# Altium footprint library PcbLib1.PcbLib: 1 footprints
Each footprint in its own frame and in the unit in brackets; x right, y up, seen from the top. Pads: shape width x height; smd on the part's side, far side on the other; paste and mask are expansions set on the pad; w line width, h text height; cw(c..) or ccw(c..) is an arc to the next point about the centre after c.
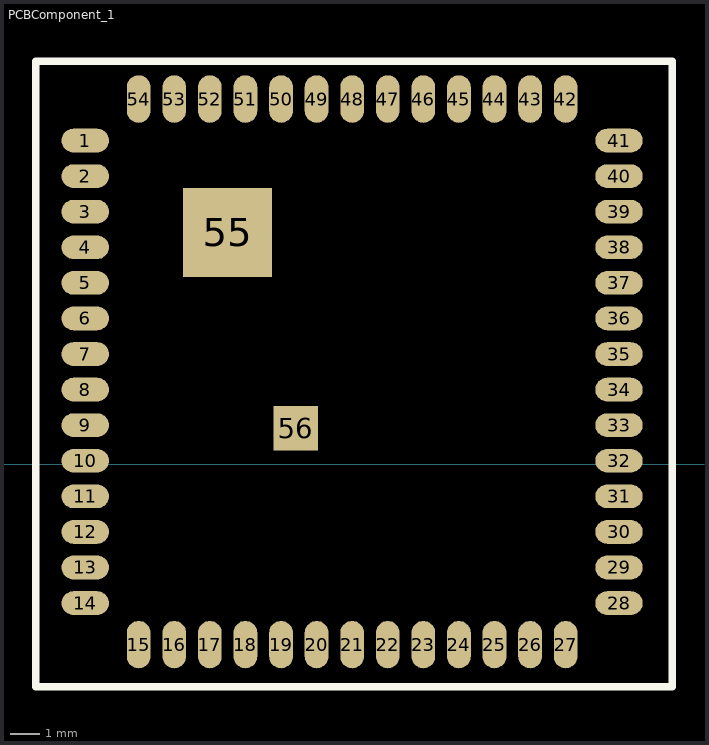
[diagram p0: the footprint, top view; thin cyan lines are the x and y axes]

## PCBComponent_1 [mm]
pads (56):
  oval 1.6x0.8 smd: 1(12.338,10.922) 2(12.338,9.722) 3(12.338,8.522) 4(12.338,7.322) 5(12.338,6.122) 6(12.338,4.922) 7(12.338,3.722) 8(12.338,2.522) 9(12.338,1.322) 10(12.338,0.122) 11(12.338,-1.078) 12(12.338,-2.278) 13(12.338,-3.478) 14(12.338,-4.678) 28(30.338,-4.678) 29(30.338,-3.478) 30(30.338,-2.278) 31(30.338,-1.078) 32(30.338,0.122) 33(30.338,1.322) 34(30.338,2.522) 35(30.338,3.722) 36(30.338,4.922) 37(30.338,6.122) 38(30.338,7.322) 39(30.338,8.522) 40(30.338,9.722) 41(30.338,10.922)
  oval 0.8x1.6 smd: 15(14.138,-6.078) 16(15.338,-6.078) 17(16.538,-6.078) 18(17.738,-6.078) 19(18.938,-6.078) 20(20.138,-6.078) 21(21.338,-6.078) 22(22.538,-6.078) 23(23.738,-6.078) 24(24.938,-6.078) 25(26.138,-6.078) 26(27.338,-6.078) 27(28.538,-6.078) 42(28.538,12.322) 43(27.338,12.322) 44(26.138,12.322) 45(24.938,12.322) 46(23.738,12.322) 47(22.538,12.322) 48(21.338,12.322) 49(20.138,12.322) 50(18.938,12.322) 51(17.738,12.322) 52(16.538,12.322) 53(15.338,12.322) 54(14.138,12.322)
  rect 3x3 smd: 55(17.138,7.822)
  rect 1.5x1.5 smd: 56(19.438,1.222)
Top Overlay:
  lines w0.254: 10.668,-7.493 32.131,-7.493 32.131,13.589 26.416,13.589 10.668,13.589 10.668,-7.493